# Altium footprint library DIOT_Sampler.PcbLib: 103 footprints (part 2 of 7)
Each footprint in its own frame and in the unit in brackets; x right, y up, seen from the top. Pads: shape width x height; smd on the part's side, far side on the other; paste and mask are expansions set on the pad; w line width, h text height; cw(c..) or ccw(c..) is an arc to the next point about the centre after c.
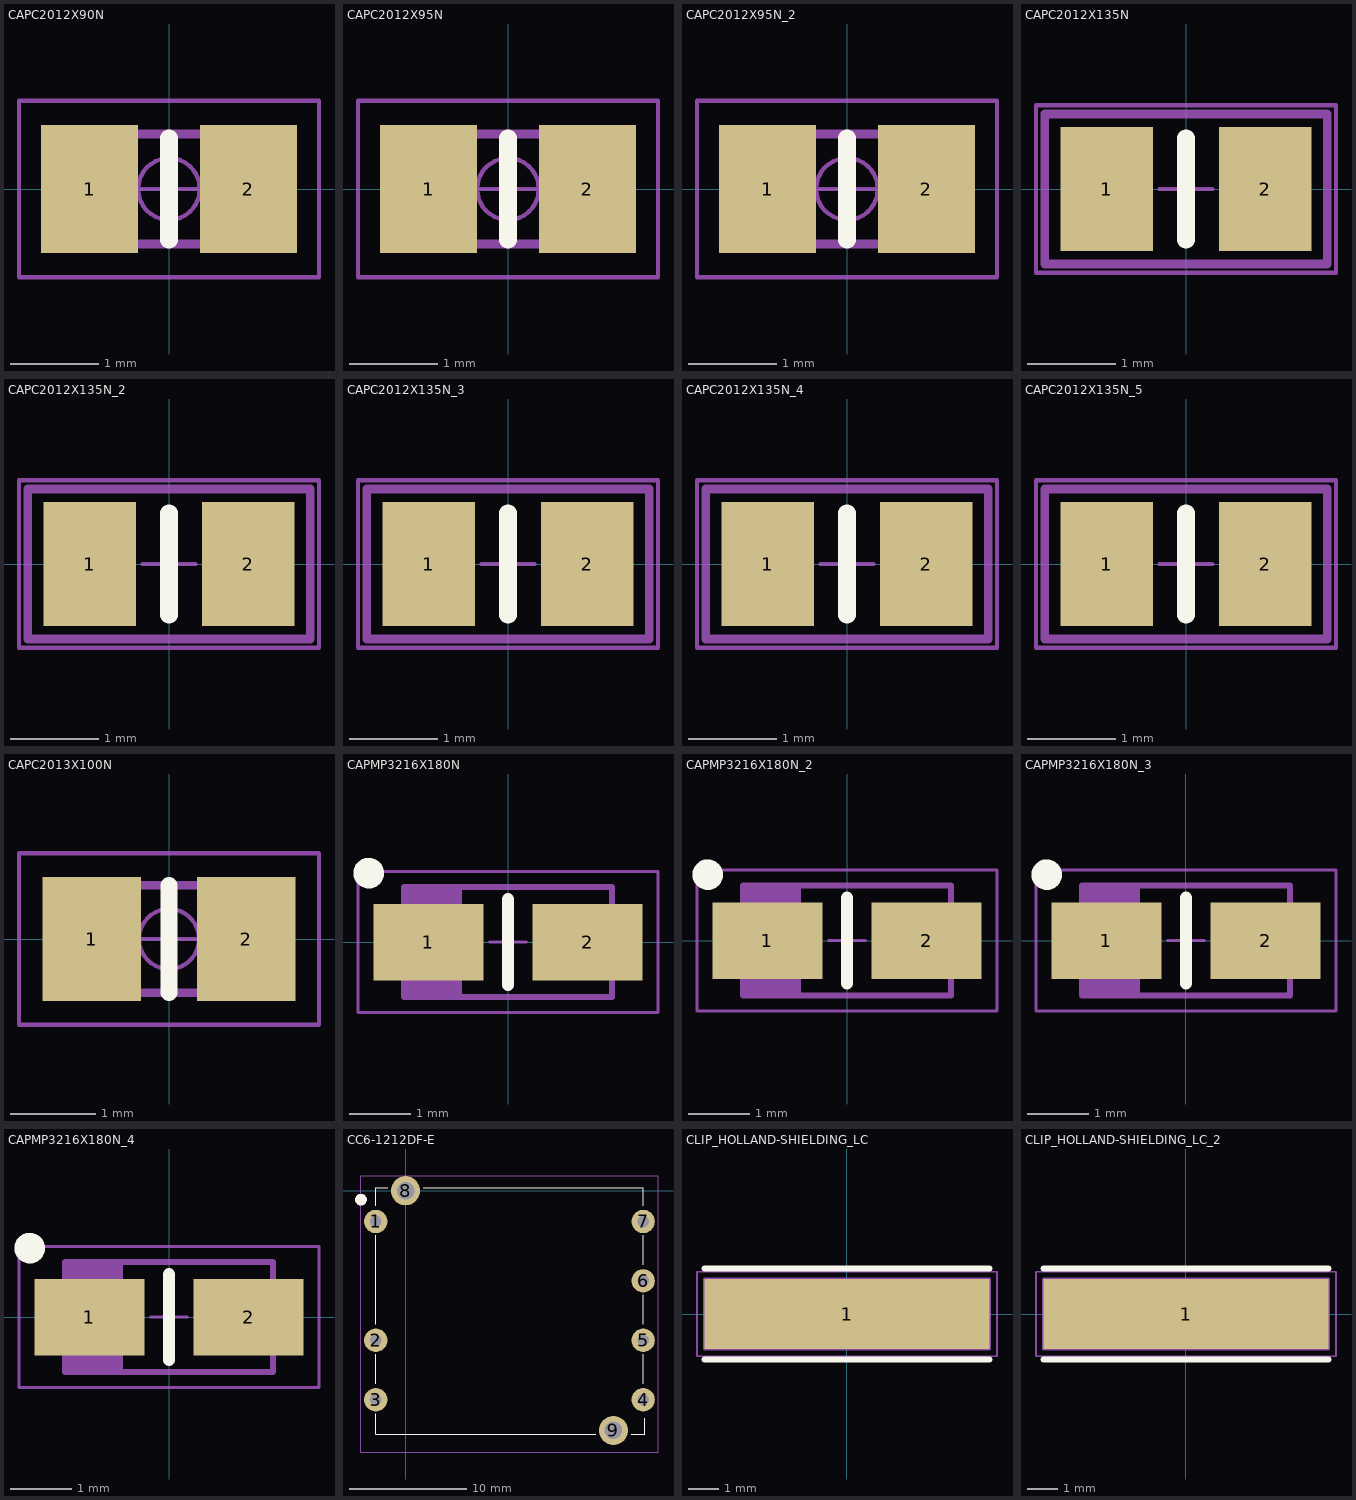
[diagram p1: the footprints below, top view; thin cyan lines are the x and y axes]

## CAPC2012X90N [mm]
pads (2):
  rect 1.1x1.45 smd: 1(-0.9,0) 2(0.9,0)
Top Overlay:
  lines w0.2: 0,-0.575 0,0.575
Mechanical 14:
  lines w0.1: -1,-0.625 1,-0.625 1,0.625 -1,0.625 -1,-0.625
Mechanical 15:
  circle w0.05: c0,0 r0.35
  lines w0.05: -0.5,0 0.5,0 ; 0,-0.5 0,0.5 ; -1.7,-1 1.7,-1 1.7,1 -1.7,1 -1.7,-1
3D body "CAPC2012X90N.stp": height 0.9, standoff 0, extent -1.05,-0.675 1.05,0.675

## CAPC2012X95N [mm]
pads (2):
  rect 1.1x1.45 smd: 1(-0.9,0) 2(0.9,0)
Top Overlay:
  lines w0.2: 0,-0.575 0,0.575
Mechanical 14:
  lines w0.1: -1,-0.625 1,-0.625 1,0.625 -1,0.625 -1,-0.625
Mechanical 15:
  circle w0.05: c0,0 r0.35
  lines w0.05: -0.5,0 0.5,0 ; 0,-0.5 0,0.5 ; -1.7,-1 1.7,-1 1.7,1 -1.7,1 -1.7,-1
3D body "CAPC2012X95N.stp": height 0.95, standoff 0, extent -1.05,-0.675 1.05,0.675

## CAPC2012X95N_2 [mm]
pads (2):
  rect 1.1x1.45 smd: 1(-0.9,0) 2(0.9,0)
Top Overlay:
  lines w0.2: 0,-0.575 0,0.575
Mechanical 14:
  lines w0.1: -1,-0.625 -1,0.625 1,0.625 1,-0.625 -1,-0.625
Mechanical 15:
  circle w0.05: c0,0 r0.35
  lines w0.05: -0.5,0 0.5,0 ; 0,-0.5 0,0.5 ; -1.7,-1 -1.7,1 1.7,1 1.7,-1 -1.7,-1
3D body "CAPC2012X95N.stp": height 0.95, standoff 0, extent -1.05,-0.675 1.05,0.675

## CAPC2012X135N [mm]
pads (2):
  rect 1.05x1.4 smd: 1(-0.9,0) 2(0.9,0)
Top Overlay:
  lines w0.2: 0,-0.575 0,0.575
Mechanical 14:
  lines w0.1: -1.6,-0.85 -1.6,0.85 1.6,0.85 1.6,-0.85 -1.6,-0.85
Mechanical 15:
  lines w0.05: -0.3,0 0.3,0 ; 0,-0.3 0,0.3 ; -1.7,-0.95 -1.7,0.95 1.7,0.95 1.7,-0.95 -1.7,-0.95
3D body "CAPC2012X135N.stp": height 1.25, standoff 0, extent -1.05,-0.675 1.05,0.675

## CAPC2012X135N_2 [mm]
pads (2):
  rect 1.05x1.4 smd: 1(-0.9,0) 2(0.9,0)
Top Overlay:
  lines w0.2: 0,-0.575 0,0.575
Mechanical 14:
  lines w0.1: -1.6,-0.85 -1.6,0.85 1.6,0.85 1.6,-0.85 -1.6,-0.85
Mechanical 15:
  lines w0.05: -0.3,0 0.3,0 ; 0,-0.3 0,0.3 ; -1.7,-0.95 -1.7,0.95 1.7,0.95 1.7,-0.95 -1.7,-0.95
3D body "CAPC2012X135N.stp": height 1.25, standoff 0, extent -1.05,-0.675 1.05,0.675

## CAPC2012X135N_3 [mm]
pads (2):
  rect 1.05x1.4 smd: 1(-0.9,0) 2(0.9,0)
Top Overlay:
  lines w0.2: 0,-0.575 0,0.575
Mechanical 14:
  lines w0.1: -1.6,-0.85 -1.6,0.85 1.6,0.85 1.6,-0.85 -1.6,-0.85
Mechanical 15:
  lines w0.05: -0.3,0 0.3,0 ; 0,-0.3 0,0.3 ; -1.7,-0.95 -1.7,0.95 1.7,0.95 1.7,-0.95 -1.7,-0.95
3D body "CAPC2012X135N.stp": height 1.25, standoff 0, extent -1.05,-0.675 1.05,0.675

## CAPC2012X135N_4 [mm]
pads (2):
  rect 1.05x1.4 smd: 1(-0.9,0) 2(0.9,0)
Top Overlay:
  lines w0.2: 0,-0.575 0,0.575
Mechanical 14:
  lines w0.1: -1.6,-0.85 1.6,-0.85 1.6,0.85 -1.6,0.85 -1.6,-0.85
Mechanical 15:
  lines w0.05: -0.3,0 0.3,0 ; 0,-0.3 0,0.3 ; -1.7,-0.95 1.7,-0.95 1.7,0.95 -1.7,0.95 -1.7,-0.95
3D body "CAPC2012X135N.stp": height 1.25, standoff 0, extent -1.05,-0.675 1.05,0.675

## CAPC2012X135N_5 [mm]
pads (2):
  rect 1.05x1.4 smd: 1(-0.9,0) 2(0.9,0)
Top Overlay:
  lines w0.2: 0,-0.575 0,0.575
Mechanical 14:
  lines w0.1: -1.6,-0.85 1.6,-0.85 1.6,0.85 -1.6,0.85 -1.6,-0.85
Mechanical 15:
  lines w0.05: -0.3,0 0.3,0 ; 0,-0.3 0,0.3 ; -1.7,-0.95 1.7,-0.95 1.7,0.95 -1.7,0.95 -1.7,-0.95
3D body "CAPC2012X135N.stp": height 1.25, standoff 0, extent -1.05,-0.675 1.05,0.675

## CAPC2013X100N [mm]
pads (2):
  rect 1.15x1.45 smd: 1(-0.9,0) 2(0.9,0)
Top Overlay:
  lines w0.2: 0,-0.625 0,0.625
Mechanical 14:
  lines w0.1: -1,-0.625 1,-0.625 1,0.625 -1,0.625 -1,-0.625
Mechanical 15:
  circle w0.05: c0,0 r0.35
  lines w0.05: -0.5,0 0.5,0 ; 0,-0.5 0,0.5 ; -1.75,-1 1.75,-1 1.75,1 -1.75,1 -1.75,-1
3D body "CAPC2013X100N.stp": height 1, standoff 0, extent -1.1,-0.725 1.1,0.725

## CAPMP3216X180N [mm]
pads (2):
  rect 1.8x1.25 smd: 1(-1.3,0) 2(1.3,0)
Top Overlay:
  circle w0.25: c-2.275,1.125 r0.125
  lines w0.2: 0,-0.7 0,0.7
Mechanical 14:
  lines w0.1: -1.625,-0.9 -1.625,0.9 ; -1.55,-0.9 -1.55,0.9 ; -1.475,-0.9 -1.475,0.9 ; -1.4,-0.9 -1.4,0.9 ; -1.325,-0.9 -1.325,0.9 ; -1.25,-0.9 -1.25,0.9 ; -1.175,-0.9 -1.175,0.9 ; -1.1,-0.9 -1.1,0.9 ; -1.025,-0.9 -1.025,0.9 ; -0.95,-0.9 -0.95,0.9 ; -0.875,-0.9 -0.875,0.9 ; -0.8,-0.9 -0.8,0.9 ; -1.7,-0.9 -1.7,0.9 1.7,0.9 1.7,-0.9 -1.7,-0.9
Mechanical 15:
  lines w0.05: -0.3,0 0.3,0 ; 0,-0.3 0,0.3 ; -2.45,-1.15 2.45,-1.15 2.45,1.15 -2.45,1.15 -2.45,-1.15
3D body "CAPMP3216X180N.stp": height 1.6, standoff 0, extent -1.7,-0.9 1.7,0.9

## CAPMP3216X180N_2 [mm]
pads (2):
  rect 1.8x1.25 smd: 1(-1.3,0) 2(1.3,0)
Top Overlay:
  circle w0.25: c-2.275,1.075 r0.125
  lines w0.2: 0,-0.7 0,0.7
Mechanical 14:
  lines w0.1: -1.625,-0.9 -1.625,0.9 ; -1.55,-0.9 -1.55,0.9 ; -1.475,-0.9 -1.475,0.9 ; -1.4,-0.9 -1.4,0.9 ; -1.325,-0.9 -1.325,0.9 ; -1.25,-0.9 -1.25,0.9 ; -1.175,-0.9 -1.175,0.9 ; -1.1,-0.9 -1.1,0.9 ; -1.025,-0.9 -1.025,0.9 ; -0.95,-0.9 -0.95,0.9 ; -0.875,-0.9 -0.875,0.9 ; -1.7,-0.9 1.7,-0.9 1.7,0.9 -1.7,0.9 -1.7,-0.9 ; -0.8,-0.9 -0.8,0.9 -0.8,-0.9
Mechanical 15:
  lines w0.05: -0.3,0 0.3,0 ; 0,-0.3 0,0.3 ; -2.45,-1.15 -2.45,1.15 2.45,1.15 2.45,-1.15 -2.45,-1.15
3D body "CAPMP3216X180N.stp": height 1.6, standoff 0, extent -1.7,-0.9 1.7,0.9

## CAPMP3216X180N_3 [mm]
pads (2):
  rect 1.8x1.25 smd: 1(-1.3,0) 2(1.3,0)
Top Overlay:
  circle w0.25: c-2.275,1.075 r0.125
  lines w0.2: 0,-0.7 0,0.7
Mechanical 14:
  lines w0.1: -1.625,-0.9 -1.625,0.9 ; -1.55,-0.9 -1.55,0.9 ; -1.475,-0.9 -1.475,0.9 ; -1.4,-0.9 -1.4,0.9 ; -1.325,-0.9 -1.325,0.9 ; -1.25,-0.9 -1.25,0.9 ; -1.175,-0.9 -1.175,0.9 ; -1.1,-0.9 -1.1,0.9 ; -1.025,-0.9 -1.025,0.9 ; -0.95,-0.9 -0.95,0.9 ; -0.875,-0.9 -0.875,0.9 ; -1.7,-0.9 -1.7,0.9 1.7,0.9 1.7,-0.9 -1.7,-0.9 ; -0.8,-0.9 -0.8,0.9 -0.8,-0.9
Mechanical 15:
  lines w0.05: -0.3,0 0.3,0 ; 0,-0.3 0,0.3 ; -2.45,-1.15 2.45,-1.15 2.45,1.15 -2.45,1.15 -2.45,-1.15
3D body "CAPMP3216X180N.stp": height 1.6, standoff 0, extent -1.7,-0.9 1.7,0.9

## CAPMP3216X180N_4 [mm]
pads (2):
  rect 1.8x1.25 smd: 1(-1.3,0) 2(1.3,0)
Top Overlay:
  circle w0.25: c-2.275,1.125 r0.125
  lines w0.2: 0,-0.7 0,0.7
Mechanical 14:
  lines w0.1: -1.625,-0.9 -1.625,0.9 ; -1.55,-0.9 -1.55,0.9 ; -1.475,-0.9 -1.475,0.9 ; -1.4,-0.9 -1.4,0.9 ; -1.325,-0.9 -1.325,0.9 ; -1.25,-0.9 -1.25,0.9 ; -1.175,-0.9 -1.175,0.9 ; -1.1,-0.9 -1.1,0.9 ; -1.025,-0.9 -1.025,0.9 ; -0.95,-0.9 -0.95,0.9 ; -0.875,-0.9 -0.875,0.9 ; -1.7,-0.9 1.7,-0.9 1.7,0.9 -1.7,0.9 -1.7,-0.9 ; -0.8,-0.9 -0.8,0.9 -0.8,-0.9
Mechanical 15:
  lines w0.05: -0.3,0 0.3,0 ; 0,-0.3 0,0.3 ; -2.45,-1.15 -2.45,1.15 2.45,1.15 2.45,-1.15 -2.45,-1.15
3D body "CAPMP3216X180N.stp": height 1.6, standoff 0, extent -1.7,-0.9 1.7,0.9

## CC6-1212DF-E [mm]
pads (9):
  round 2 hole 1: 1(-2.54,-2.63) 2(-2.54,-12.79) 3(-2.54,-17.87) 4(20.32,-17.87) 5(20.32,-12.79) 6(20.32,-7.71) 7(20.32,-2.63)
  round 2.5 hole 1.5: 8(0,0) 9(17.78,-20.5)
Top Overlay:
  circle w0.5: c-3.81,-0.762 r0.254
  lines w0.1: -2.54,-19.05 -2.54,-20.32 -2.54,-20.574 -2.54,-20.828 16.256,-20.828 ; -2.54,-16.51 -2.54,-13.97 ; -2.54,-11.43 -2.54,-3.81 ; -2.54,-1.27 -2.54,0.254 -1.524,0.254 ; 1.524,0.254 20.32,0.254 20.32,0 20.32,-1.27 ; 19.304,-20.828 20.426,-20.828 20.442,-20.812 20.442,-19.436 ; 20.32,-16.51 20.32,-13.97 ; 20.32,-11.43 20.32,-8.89 ; 20.32,-6.35 20.32,-3.81
Mechanical 15:
  lines w0.1: -3.81,-22.352 21.59,-22.352 21.59,1.27 -3.81,1.27 -3.81,-22.352
3D body "cc6f.stp": height 8.4, standoff -3.5, extent -2.718,-20.812 20.442,0.288

## CLIP_HOLLAND-SHIELDING_LC [mm]
pads (1):
  rect 9.4x2.3 smd: 1(0,0)
Top Overlay:
  lines w0.2: -4.7,-1.5 4.7,-1.5 ; -4.7,1.5 4.7,1.5
Mechanical 8:
  lines w0.1: -0.5,0 0,0 ; 0,-0.5 0,0 ; 0,0.5 0,0 ; 0.5,0 0,0 ; -4.7,-1.15 -4.7,1.15 4.7,1.15 4.7,-1.15 -4.7,-1.15
Mechanical 14:
  lines w0.1: -4.4,-0.243 -1.8,-0.243 -1.8,-1.15 -4.4,-1.15 -4.4,1.15 -1.8,1.15 -1.8,0.243 -4.4,0.243 ; -3.667,-0.243 cw(c-3.35,0) -3.667,0.243 ; -2.032,-0.243 ccw(c-2.35,0) -2.032,0.243 ; -1.8,-0.85 cw(c-1.65,-0.85) -1.5,-0.85 -1.5,-1.15 1.5,-1.15 1.5,-0.85 cw(c1.65,-0.85) 1.8,-0.852 ; -1.8,0.852 ccw(c-1.65,0.85) -1.5,0.85 -1.5,1.15 1.5,1.15 1.5,0.85 ccw(c1.65,0.85) 1.8,0.85 ; 2.033,-0.243 cw(c2.35,0) 2.033,0.243 ; 3.668,-0.243 ccw(c3.35,0) 3.668,0.243 ; 4.4,-0.243 1.8,-0.243 1.8,-1.15 4.4,-1.15 4.4,1.15 1.8,1.15 1.8,0.243 4.4,0.243
Mechanical 15:
  lines w0.05: -4.95,-1.4 4.95,-1.4 4.95,1.4 -4.95,1.4 -4.95,-1.4
3D body "CLIP_HOLLAND-SHIELDING_LC.stp": height 3.5, standoff 0, extent -4.4,-1.15 4.4,1.15

## CLIP_HOLLAND-SHIELDING_LC_2 [mm]
pads (1):
  rect 9.4x2.3 smd: 1(0,0)
Top Overlay:
  lines w0.2: -4.7,-1.5 4.7,-1.5 ; -4.7,1.5 4.7,1.5
Mechanical 8:
  lines w0.1: -0.5,0 0,0 ; 0,-0.5 0,0 ; 0,0.5 0,0 ; 0.5,0 0,0 ; -4.7,-1.15 -4.7,1.15 4.7,1.15 4.7,-1.15 -4.7,-1.15
Mechanical 14:
  lines w0.1: -4.4,-0.243 -1.8,-0.243 -1.8,-1.15 -4.4,-1.15 -4.4,1.15 -1.8,1.15 -1.8,0.243 -4.4,0.243 ; -3.667,-0.243 cw(c-3.35,0) -3.667,0.243 ; -2.032,-0.243 ccw(c-2.35,0) -2.032,0.243 ; -1.8,-0.85 cw(c-1.65,-0.85) -1.5,-0.85 -1.5,-1.15 1.5,-1.15 1.5,-0.85 cw(c1.65,-0.85) 1.8,-0.852 ; -1.8,0.852 ccw(c-1.65,0.85) -1.5,0.85 -1.5,1.15 1.5,1.15 1.5,0.85 ccw(c1.65,0.85) 1.8,0.85 ; 2.033,-0.243 cw(c2.35,0) 2.033,0.243 ; 3.668,-0.243 ccw(c3.35,0) 3.668,0.243 ; 4.4,-0.243 1.8,-0.243 1.8,-1.15 4.4,-1.15 4.4,1.15 1.8,1.15 1.8,0.243 4.4,0.243
Mechanical 15:
  lines w0.05: -4.95,-1.4 4.95,-1.4 4.95,1.4 -4.95,1.4 -4.95,-1.4
3D body "CLIP_HOLLAND-SHIELDING_LC.stp": height 3.5, standoff 0, extent -4.4,-1.15 4.4,1.15